# Altium schematic symbol library mma8451qt.SchLib: 1 symbol
Pins are listed as number, name and electrical type; pins without a type are passive.

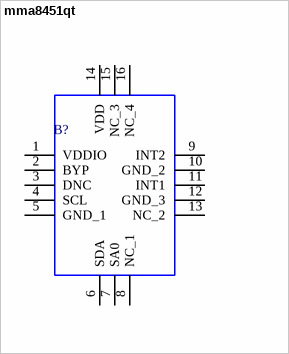
[diagram p0: symbol mma8451qt]

## mma8451qt
designator B?
Freescale MMA8451QT 3-Axis Accelerometer IC, 1.95 ??? 3.6 V 16-pin QFN; Manufacturer_Name: NXP; Geometry.Height: 1mm; Mouser Part Number: 841-MMA8451QT; Mouser Price/Stock: https://www.mouser.co.uk/ProductDetail/NXP-Semiconductors/MMA8451QT?qs=nf24X8JpkflIa2CupKIQ%252BA%3D%3D; Manufacturer_Part_Number: mma8451qt; Datasheet Link: http://www.nxp.com/docs/en/data-sheet/MMA8451Q.pdf
footprint PQFN50P300X300X100-16N
pins: 1 VDDIO (power), 2 BYP, 3 DNC, 4 SCL, 5 GND_1, 6 SDA, 7 SA0, 8 NC_1, 9 INT2, 10 GND_2, 11 INT1, 12 GND_3, 13 NC_2, 14 VDD (power), 15 NC_3, 16 NC_4